# Altium schematic symbol library MMBT5401.Schlib: 1 symbol
Pins are listed as number, name and electrical type; pins without a type are passive.

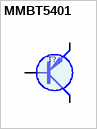
[diagram p0: symbol MMBT5401]

## MMBT5401
designator T?
SOT23   150V 0.6A 100MHz 6p(10V) (MMBT5551)
pins: 1 B, 2 E (oe), 3 C (oc)
1 alternate drawing of the same symbol